# Altium schematic symbol library LM324ANSRG4.SchLib: 1 symbol
Pins are listed as number, name and electrical type; pins without a type are passive.

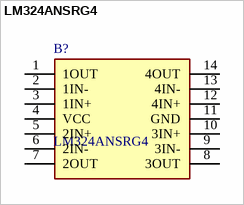
[diagram p0: symbol LM324ANSRG4]

## LM324ANSRG4
designator B?
Operational Amplifiers - Op Amps Quad Op Amp; Manufacturer_Name: Texas Instruments; Geometry.Height: 2mm; Mouser Part Number: 595-LM324ANSRG4; Mouser Price/Stock: https://www.mouser.co.uk/ProductDetail/Texas-Instruments/LM324ANSRG4?qs=O7ZcnZfxQnasFrwe49q%2FzA%3D%3D; Manufacturer_Part_Number: LM324ANSRG4; Datasheet Link: https://www.ti.com/lit/ds/symlink/lm324a.pdf?ts=1618982715856&ref_url=https%253A%252F%252Fwww.ti.com%252Fproduct%252FLM324A
footprint SOIC127P780X200-14N
pins: 1 1OUT, 2 1IN-, 3 1IN+, 4 VCC, 5 2IN+, 6 2IN-, 7 2OUT, 8 3OUT, 9 3IN-, 10 3IN+, 11 GND, 12 4IN+, 13 4IN-, 14 4OUT